# Altium schematic symbol library Schlib_E_Switch.SchLib: 2 symbols
Pins are listed as number, name and electrical type; pins without a type are passive.

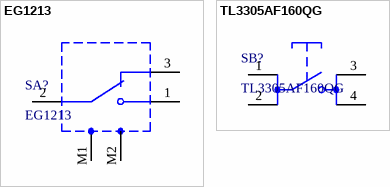
[diagram p0: symbols EG1213 to TL3305AF160QG]

## EG1213
designator SA?
Slide Switch 2SPDT, 0.2A/30VDC; Manufacturer: E-Switch, Inc.; PartNumber: EG1213
footprint EG1213
pins: 1, 2, 3, M1, M2

## TL3305AF160QG
designator SB?
Switch Tactile SPST-NO 50mA 12V; Manufacturer: E-Switch, Inc.; PartNumber: TL3305AF160QG
footprint TL3305AF160QG
pins: 1, 2, 3, 4